# Altium footprint library DANCE_LIB_REV2.PcbLib: 146 footprints (part 8 of 10)
Each footprint in its own frame and in the unit in brackets; x right, y up, seen from the top. Pads: shape width x height; smd on the part's side, far side on the other; paste and mask are expansions set on the pad; w line width, h text height; cw(c..) or ccw(c..) is an arc to the next point about the centre after c.
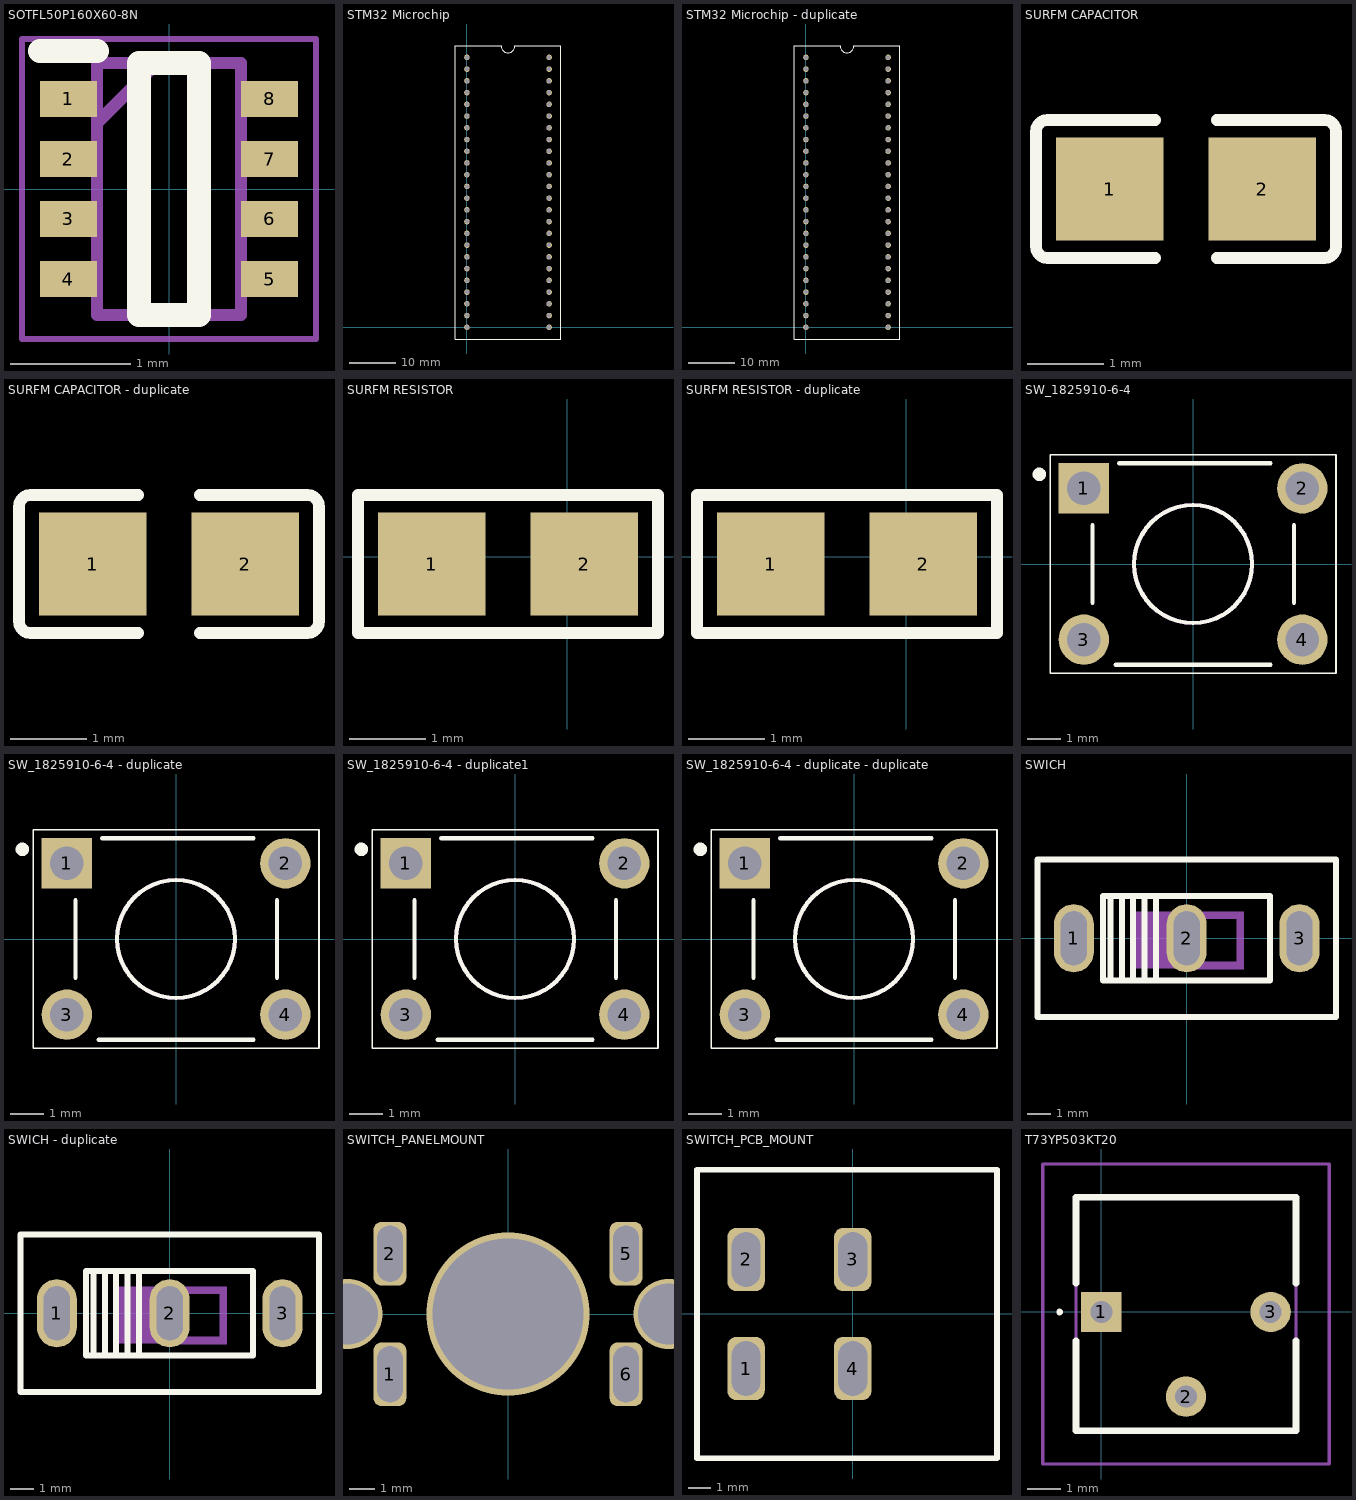
[diagram p7: the footprints below, top view; thin cyan lines are the x and y axes]

## SOTFL50P160X60-8N [mm]
pads (8):
  rect 0.475x0.3 smd: 1(-0.838,0.75) 2(-0.838,0.25) 3(-0.838,-0.25) 4(-0.838,-0.75) 5(0.838,-0.75) 6(0.838,-0.25) 7(0.838,0.25) 8(0.838,0.75)
Top Overlay:
  lines w0.2: -1.075,1.15 -0.6,1.15 ; -0.25,-1.05 -0.25,1.05 0.25,1.05 0.25,-1.05 -0.25,-1.05
Mechanical 13:
  lines w0.1: -0.6,0.55 -0.1,1.05 ; -0.6,-1.05 -0.6,1.05 0.6,1.05 0.6,-1.05 -0.6,-1.05
Mechanical 15:
  lines w0.05: -1.225,-1.25 -1.225,1.25 1.225,1.25 1.225,-1.25 -1.225,-1.25
3D body "MP3438GTL-Z.stp": height 0.6, standoff 0, extent -0.8,-1.05 0.8,1.05

## STM32 Microchip [mm]
pads (48):
  round 1.2 hole 0.9: 1(0,58.42) 2(0,55.88) 3(0,53.34) 4(0,50.8) 5(0,48.26) 6(0,45.72) 7(0,43.18) 8(0,40.64) 9(0,38.1) 10(0,35.56) 11(0,33.02) 12(0,30.48) 13(0,27.94) 14(0,25.4) 15(0,22.86) 16(0,20.32) 17(0,17.78) 18(0,15.24) 19(0,12.7) 20(0,10.16) 21(0,7.62) 22(0,5.08) 23(0,2.54) 24(0,0) 25(17.78,0) 26(17.78,2.54) 27(17.78,5.08) 28(17.78,7.62) 29(17.78,10.16) 30(17.78,12.7) 31(17.78,15.24) 32(17.78,17.78) 33(17.78,20.32) 34(17.78,22.86) 35(17.78,25.4) 36(17.78,27.94) 37(17.78,30.48) 38(17.78,33.02) 39(17.78,35.56) 40(17.78,38.1) 41(17.78,40.64) 42(17.78,43.18) 43(17.78,45.72) 44(17.78,48.26) 45(17.78,50.8) 46(17.78,53.34) 47(17.78,55.88) 48(17.78,58.42)
Top Overlay:
  lines w0.254: -2.54,-2.54 -2.54,60.9 7.38,60.9 ccw(c8.88,60.9) 10.38,60.9 20.3,60.9 20.3,-2.54 -2.54,-2.54

## STM32 Microchip - duplicate [mm]
pads (48):
  round 1.2 hole 0.9: 1(0,58.42) 2(0,55.88) 3(0,53.34) 4(0,50.8) 5(0,48.26) 6(0,45.72) 7(0,43.18) 8(0,40.64) 9(0,38.1) 10(0,35.56) 11(0,33.02) 12(0,30.48) 13(0,27.94) 14(0,25.4) 15(0,22.86) 16(0,20.32) 17(0,17.78) 18(0,15.24) 19(0,12.7) 20(0,10.16) 21(0,7.62) 22(0,5.08) 23(0,2.54) 24(0,0) 25(17.78,0) 26(17.78,2.54) 27(17.78,5.08) 28(17.78,7.62) 29(17.78,10.16) 30(17.78,12.7) 31(17.78,15.24) 32(17.78,17.78) 33(17.78,20.32) 34(17.78,22.86) 35(17.78,25.4) 36(17.78,27.94) 37(17.78,30.48) 38(17.78,33.02) 39(17.78,35.56) 40(17.78,38.1) 41(17.78,40.64) 42(17.78,43.18) 43(17.78,45.72) 44(17.78,48.26) 45(17.78,50.8) 46(17.78,53.34) 47(17.78,55.88) 48(17.78,58.42)
Top Overlay:
  lines w0.254: -2.54,-2.54 -2.54,60.9 7.38,60.9 ccw(c8.88,60.9) 10.38,60.9 20.3,60.9 20.3,-2.54 -2.54,-2.54

## SURFM CAPACITOR [mm]
pads (2):
  rect 1.41x1.35 smd paste-100 mask+0.051: 1(970.227,1268.578) 2(972.227,1268.578)
Top Overlay:
  lines w0.152: 970.826,1267.674 969.416,1267.674 cw(c969.416,1267.826) 969.263,1267.826 969.263,1269.329 cw(c969.416,1269.329) 969.416,1269.481 970.826,1269.481 ; 971.628,1267.674 973.038,1267.674 ccw(c973.038,1267.826) 973.191,1267.826 973.191,1269.329 ccw(c973.038,1269.329) 973.038,1269.481 971.628,1269.481

## SURFM CAPACITOR - duplicate [mm]
pads (2):
  rect 1.41x1.35 smd paste-100 mask+0.051: 1(970.227,1268.578) 2(972.227,1268.578)
Top Overlay:
  lines w0.152: 970.826,1267.674 969.416,1267.674 cw(c969.416,1267.826) 969.263,1267.826 969.263,1269.329 cw(c969.416,1269.329) 969.416,1269.481 970.826,1269.481 ; 971.628,1267.674 973.038,1267.674 ccw(c973.038,1267.826) 973.191,1267.826 973.191,1269.329 ccw(c973.038,1269.329) 973.038,1269.481 971.628,1269.481

## SURFM RESISTOR [mm]
pads (2):
  rect 1.41x1.35 smd paste-100 mask+0.051: 1(-1.773,-0.097) 2(0.227,-0.097)
Top Overlay:
  lines w0.152: -0.372,-1.001 1.191,-1.001 1.191,0.807 -0.372,0.807 ; 0.416,-1.001 -2.737,-1.001 -2.737,0.807 0.416,0.807

## SURFM RESISTOR - duplicate [mm]
pads (2):
  rect 1.41x1.35 smd paste-100 mask+0.051: 1(-1.773,-0.097) 2(0.227,-0.097)
Top Overlay:
  lines w0.152: -0.372,-1.001 1.191,-1.001 1.191,0.807 -0.372,0.807 ; 0.416,-1.001 -2.737,-1.001 -2.737,0.807 0.416,0.807

## SW_1825910-6-4 [mm]
pads (4):
  rect 1.498x1.498 hole 0.99: 1(-3.25,2.25)
  round 1.498 hole 0.99: 2(3.25,2.25) 3(-3.25,-2.25) 4(3.25,-2.25)
Top Overlay:
  circle w0.127: c0,0 r1.755
  circle w0.2: c-4.572,2.667 r0.1
  lines w0.05: -4.25,-3.25 -4.25,3.25 4.25,3.25 4.25,-3.25 -4.25,-3.25
  lines w0.127: -2.995,-1.15 -2.995,1.15 ; -2.3,-2.995 2.3,-2.995 ; -2.2,2.995 2.3,2.995 ; 3,-1.15 3,1.15
Mechanical 13:
  circle w0.127: c0,0 r1.755

## SW_1825910-6-4 - duplicate [mm]
pads (4):
  rect 1.498x1.498 hole 0.99: 1(-3.25,2.25)
  round 1.498 hole 0.99: 2(3.25,2.25) 3(-3.25,-2.25) 4(3.25,-2.25)
Top Overlay:
  circle w0.2: c-4.572,2.667 r0.1
  circle w0.127: c0,0 r1.755
  lines w0.05: -4.25,-3.25 4.25,-3.25 4.25,3.25 -4.25,3.25 -4.25,-3.25
  lines w0.127: -2.995,-1.15 -2.995,1.15 ; -2.3,-2.995 2.3,-2.995 ; -2.2,2.995 2.3,2.995 ; 3,-1.15 3,1.15
Mechanical 13:
  circle w0.127: c0,0 r1.755

## SW_1825910-6-4 - duplicate1 [mm]
pads (4):
  rect 1.498x1.498 hole 0.99: 1(-3.25,2.25)
  round 1.498 hole 0.99: 2(3.25,2.25) 3(-3.25,-2.25) 4(3.25,-2.25)
Top Overlay:
  circle w0.2: c-4.572,2.667 r0.1
  circle w0.127: c0,0 r1.755
  lines w0.05: -4.25,-3.25 4.25,-3.25 4.25,3.25 -4.25,3.25 -4.25,-3.25
  lines w0.127: -2.995,-1.15 -2.995,1.15 ; -2.3,-2.995 2.3,-2.995 ; -2.2,2.995 2.3,2.995 ; 3,-1.15 3,1.15
Mechanical 13:
  circle w0.127: c0,0 r1.755

## SW_1825910-6-4 - duplicate - duplicate [mm]
pads (4):
  rect 1.498x1.498 hole 0.99: 1(-3.25,2.25)
  round 1.498 hole 0.99: 2(3.25,2.25) 3(-3.25,-2.25) 4(3.25,-2.25)
Top Overlay:
  circle w0.2: c-4.572,2.667 r0.1
  circle w0.127: c0,0 r1.755
  lines w0.05: -4.25,-3.25 4.25,-3.25 4.25,3.25 -4.25,3.25 -4.25,-3.25
  lines w0.127: -2.995,-1.15 -2.995,1.15 ; -2.3,-2.995 2.3,-2.995 ; -2.2,2.995 2.3,2.995 ; 3,-1.15 3,1.15
Mechanical 13:
  circle w0.127: c0,0 r1.755

## SWICH [mm]
pads (3):
  oval 1.7x2.9 hole 1.1 slot 2.3 at 90 deg paste-2539.97 mask+0.05: 1(-4.8,0) 2(0,0) 3(4.8,0)
Top Overlay:
  lines w0.254: -3.242,-1.8 -3.233,-1.8 -3.233,1.8 ; -2.762,-1.8 -2.753,-1.8 -2.753,1.8 ; -2.283,-1.8 -2.273,-1.8 -2.273,1.8 ; -1.803,-1.8 -1.793,-1.8 -1.793,1.8 ; -1.314,1.8 -1.314,-1.8 -1.257,-1.8 ; 2.317,1.8 2.74,1.8 ; 2.45,1.8 -3.55,1.8 -3.55,-1.8 3.55,-1.8 3.55,1.3 3.55,1.8 2.55,1.8 ; -6.35,-3.35 6.35,-3.35 6.35,3.35 -6.35,3.35 -6.35,-3.35
Mechanical 6:
  region: -0.019,-1.301 -0.019,1.099 -0.019,1.137 0.284,1.137 0.284,-1.303 0.184,-1.303
  region: -0.021,-1.007 2.379,-1.007 2.417,-1.007 2.417,-1.311 -0.023,-1.311 -0.023,-1.21
  region: 2.124,-1.311 2.124,1.089 2.124,1.127 2.428,1.127 2.428,-1.313 2.327,-1.313
  region: -0.013,1.129 2.387,1.129 2.425,1.129 2.425,0.826 -0.015,0.826 -0.015,0.926
  region: -2.4,1.13 0,1.13 0,-1.27 -2.4,-1.27
Mechanical 15:
  region: 4.4,0.65 5.2,0.65 5.2,-0.65 4.4,-0.65
  region: -0.4,0.65 0.4,0.65 0.4,-0.65 -0.4,-0.65
  region: -5.2,0.65 -4.4,0.65 -4.4,-0.65 -5.2,-0.65
  region: -6.35,-3.29 -6.374,-3.291 -6.408,-3.326 -6.408,-3.374 -6.374,-3.409 -6.35,-3.41 -6.326,-3.409 -6.292,-3.374 -6.292,-3.326 -6.326,-3.291 -6.35,-3.29
  lines w0.051: -6.35,-3.35 6.35,-3.35 6.35,3.35 -6.35,3.35 -6.35,-3.35

## SWICH - duplicate [mm]
pads (3):
  oval 1.7x2.9 hole 1.1 slot 2.3 at 90 deg paste-2539.97 mask+0.05: 1(-4.8,0) 2(0,0) 3(4.8,0)
Top Overlay:
  lines w0.254: -3.242,-1.8 -3.233,-1.8 -3.233,1.8 ; -2.762,-1.8 -2.753,-1.8 -2.753,1.8 ; -2.283,-1.8 -2.273,-1.8 -2.273,1.8 ; -1.803,-1.8 -1.793,-1.8 -1.793,1.8 ; -1.314,1.8 -1.314,-1.8 -1.257,-1.8 ; 2.317,1.8 2.74,1.8 ; 2.45,1.8 -3.55,1.8 -3.55,-1.8 3.55,-1.8 3.55,1.3 3.55,1.8 2.55,1.8 ; -6.35,-3.35 -6.35,3.35 6.35,3.35 6.35,-3.35 -6.35,-3.35
Mechanical 6:
  region: -2.4,1.13 0,1.13 0,-1.27 -2.4,-1.27
  region: -0.013,1.129 2.387,1.129 2.425,1.129 2.425,0.826 -0.015,0.826 -0.015,0.926
  region: 2.124,-1.311 2.124,1.089 2.124,1.127 2.428,1.127 2.428,-1.313 2.327,-1.313
  region: -0.021,-1.007 2.379,-1.007 2.417,-1.007 2.417,-1.311 -0.023,-1.311 -0.023,-1.21
  region: -0.019,-1.301 -0.019,1.099 -0.019,1.137 0.284,1.137 0.284,-1.303 0.184,-1.303
Mechanical 15:
  region: -6.35,-3.29 -6.374,-3.291 -6.408,-3.326 -6.408,-3.374 -6.374,-3.409 -6.35,-3.41 -6.326,-3.409 -6.292,-3.374 -6.292,-3.326 -6.326,-3.291 -6.35,-3.29
  region: -5.2,0.65 -4.4,0.65 -4.4,-0.65 -5.2,-0.65
  region: -0.4,0.65 0.4,0.65 0.4,-0.65 -0.4,-0.65
  region: 4.4,0.65 5.2,0.65 5.2,-0.65 4.4,-0.65
  lines w0.051: -6.35,-3.35 -6.35,3.35 6.35,3.35 6.35,-3.35 -6.35,-3.35

## SWITCH_PANELMOUNT [mil]
pads (4):
  rrect50% 52x100 hole 40 slot 88 at 90 deg: 1(-185,-94.5) 2(-185,94.5) 5(185,94.5) 6(185,-94.5)
via 0,0 diameter 256 hole 236
via -252,0 diameter 110 hole 96
via 252,0 diameter 110 hole 96

## SWITCH_PCB_MOUNT [mil]
pads (4):
  rrect50% 65x110 hole 50 slot 95 at 90 deg: 1(-185,-94.5) 2(-185,94.5) 3(0,94.5) 4(0,-94.5)
Top Overlay:
  lines w10: -270,-250 250,-250 250,250 -270,250 -270,-250

## T73YP503KT20 [mm]
pads (3):
  rect 1.21x1.21 hole 0.66: 1(0,0)
  round 1.21 hole 0.66: 2(2.54,-2.54) 3(5.08,0)
Top Overlay:
  lines w0.1: -1.3,0 ccw(c-1.25,0) -1.2,0 ccw(c-1.25,0) -1.3,0
  lines w0.2: -0.76,-0.86 -0.76,-3.56 5.84,-3.56 5.84,-0.86 ; -0.76,0.86 -0.76,3.44 5.84,3.44 5.84,0.86
Mechanical 13:
  lines w0.1: -0.76,-3.56 -0.76,3.44 5.84,3.44 5.84,-3.56 -0.76,-3.56
Mechanical 15:
  lines w0.1: -1.76,-4.56 6.84,-4.56 6.84,4.44 -1.76,4.44 -1.76,-4.56
3D body "T73YP503KT20.stp": height 5.22, standoff -5, extent -0.76,-3.56 5.84,3.44